# Altium schematic symbol library ACB_lib.SchLib: 52 symbols
Pins are listed as number, name and electrical type; pins without a type are passive.

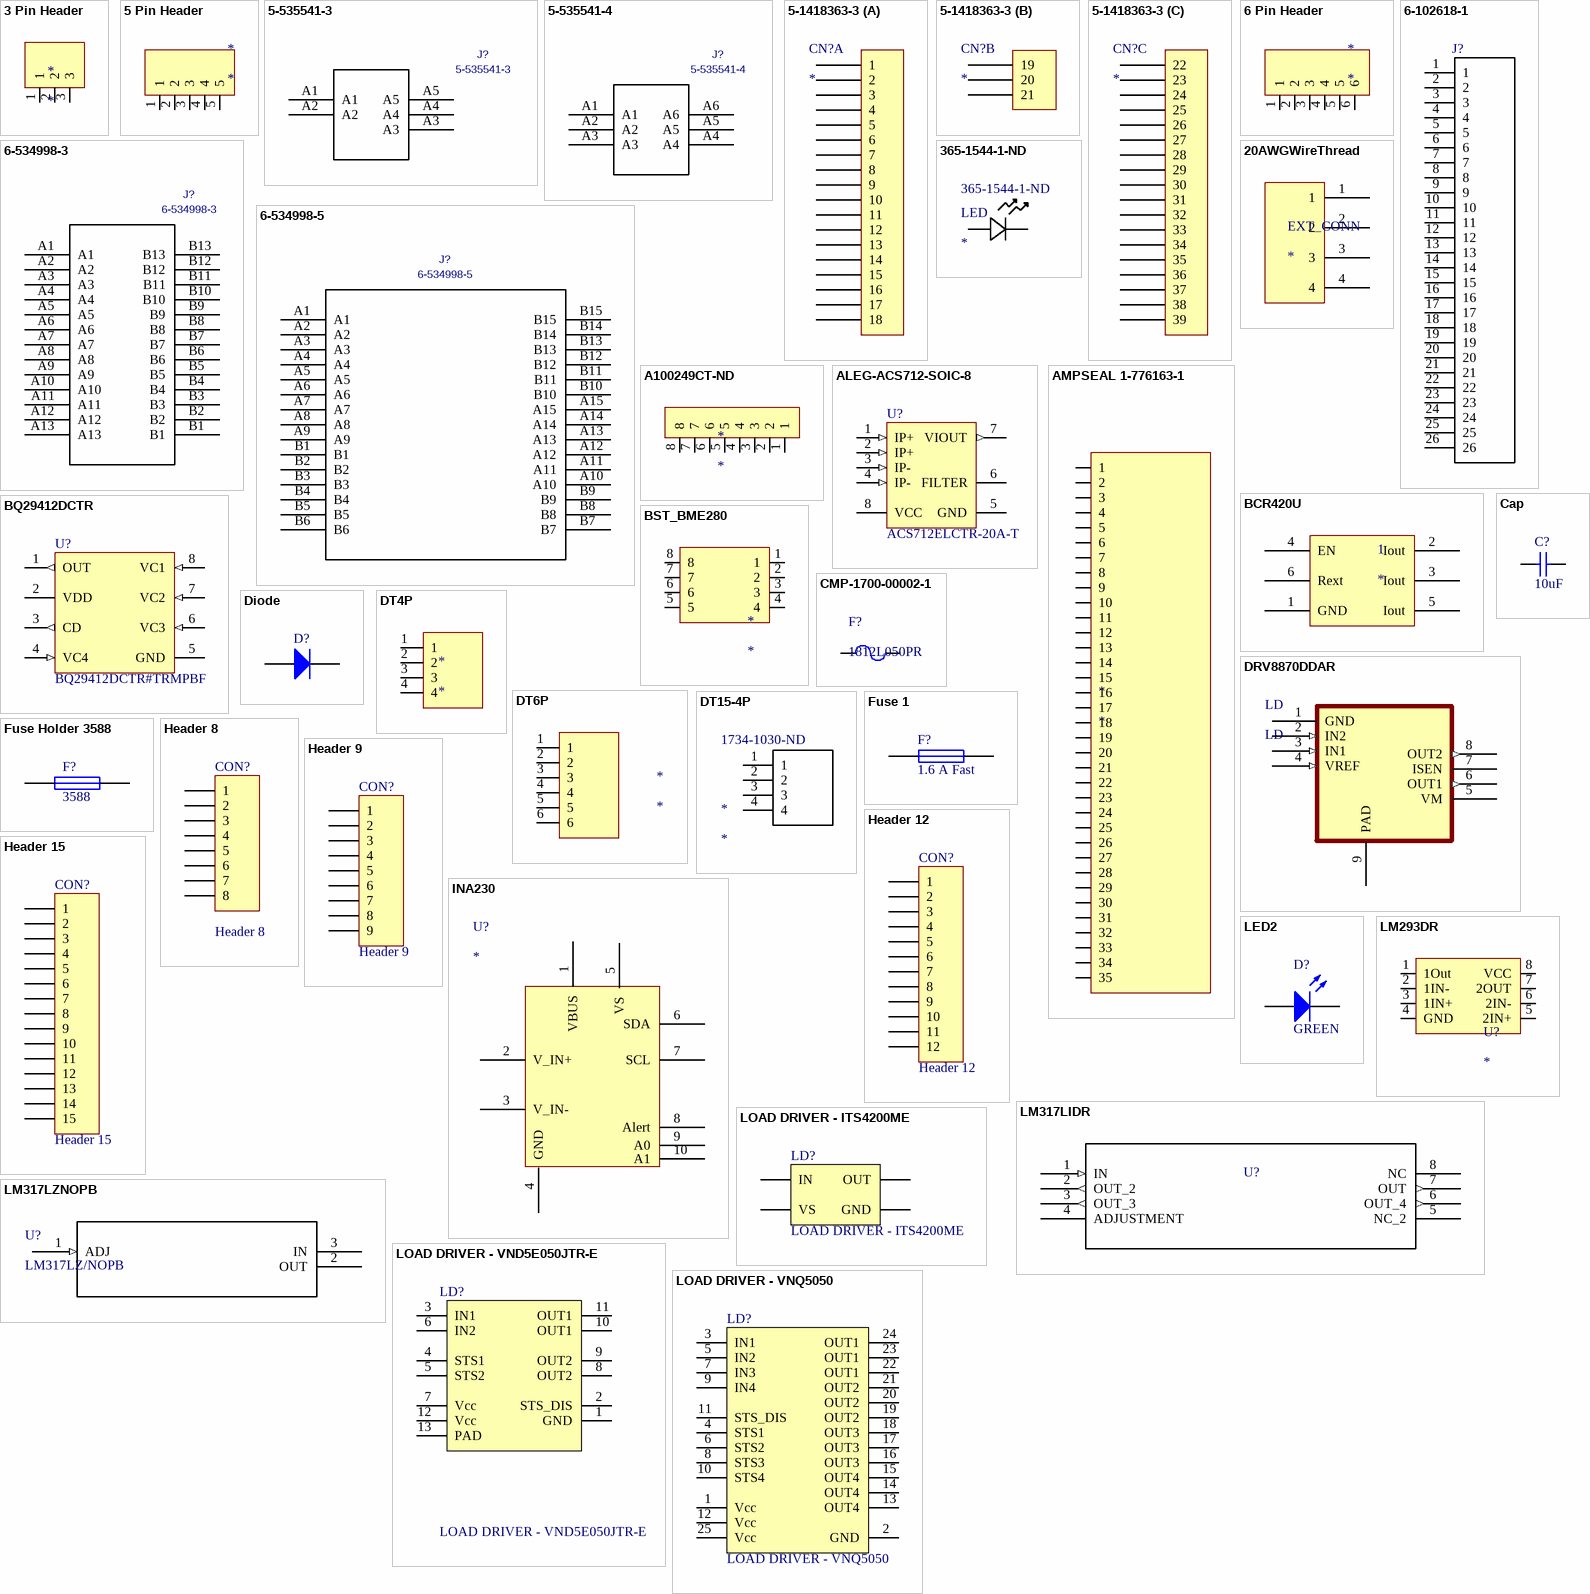
[diagram p0: symbols 3 Pin Header to LOAD DRIVER - VNQ5050]

## 3 Pin Header
designator *
footprint 3Pin Jumper (3 Pin quick jumper)
pins: 1, 2, 3

## 5 Pin Header
designator *
footprint 5-102202-2 (5-Pin single row header)
pins: 1, 2, 3, 4, 5

## 5-535541-3
designator J?
5 pin single row header; C: Copyright (C) 2015 Accelerated Designs. All rights reserved; Vendor: TE Connectivity; Built_By: EMA_UL_Team; Value: 5-535541-3; Manufacturer_Part_Number: 5-535541-3
footprint 5 Pin Header (5 Pin Header 5-535541-3_5-535541-3(Primary))
footprint 5-102202-2 (5-Pin single row header)
pins: A1, A2, A3, A4, A5

## 5-535541-4
designator J?
C: Copyright (C) 2015 Accelerated Designs. All rights reserved; Vendor: TE Connectivity; Built_By: EMA_UL_Team; Value: 5-535541-4; Manufacturer_Part_Number: 5-535541-4
footprint 5-535541-4_5-535541-4(Primary)
pins: A1, A2, A3, A4, A5, A6

## 5-1418363-3
designator CN?
Levyseal 90 degree 39 pin header
footprint LeavySeal 39 pin Ver (Levyseal 90 degree 39 pin header 5-1418363-3)
footprint LeavySeal 39 pin Hor (Levyseal 90 degree 39 pin header 5-1418363-3)
part A pins: 1, 2, 3, 4, 5, 6, 7, 8, 9, 10, 11, 12, 13, 14, 15, 16, 17, 18
part B pins: 19, 20, 21
part C pins: 22, 23, 24, 25, 26, 27, 28, 29, 30, 31, 32, 33, 34, 35, 36, 37, 38, 39

## 6 Pin Header
designator *
footprint 5-102202-3
pins: 1, 2, 3, 4, 5, 6

## 6-102618-1
designator J?  (value not drawn)
Conn Shrouded Header HDR 26 POS 2.54mm Solder ST Thru-Hole Tray; MF: TE Connectivity; SnapEDA_Link: https://www.snapeda.com/parts/6-102618-1/TE%20Connectivity%20AMP%20Connectors/view-part/?ref=snap; EU_RoHS_Compliance: Compliant; Digi-Key_Part_Number: A33061-ND; TE_purchase_URL: https://www.te.com/usa-en/product-6-102618-1.html?te_bu=Cor&te_type=disp&te_campaign=seda_glo_cor-seda-global-disp-prtnr-fy19-seda-model-bom-cta_sma-317_1&elqCampaignId=32493; MP: 6-102618-1; Digi-Key_Purchase_URL: https://www.digikey.ca/product-detail/en/te-connectivity-amp-connectors/6-102618-1/A33061-ND/1093132?utm_source=snapeda&utm_medium=aggregator&utm_campaign=symbol; Package: None; Value: *
footprint 6-102618-1 (26 Pin 2 rows)
pins: 1, 2, 3, 4, 5, 6, 7, 8, 9, 10, 11, 12, 13, 14, 15, 16, 17, 18, 19, 20, 21, 22, 23, 24, 25, 26

## 6-534998-3
designator J?
C: Copyright (C) 2015 Accelerated Designs. All rights reserved; Vendor: TE Connectivity; Built_By: EMA_UL_Team; Value: 6-534998-3; Manufacturer_Part_Number: 6-534998-3
footprint 6-534998-3_6-534998-3(Primary)
footprint 6-102618-1 (26 Pin 2 rows)
pins: A1, A2, A3, A4, A5, A6, A7, A8, A9, A10, A11, A12, A13, B1, B2, B3, B4, B5, B6, B7, B8, B9, B10, B11, B12, B13

## 6-534998-5
designator J?
C: Copyright (C) 2015 Accelerated Designs. All rights reserved; Vendor: TE Connectivity; Built_By: EMA_UL_Team; Value: 6-534998-5; Manufacturer_Part_Number: 6-534998-5
footprint 6-534998-5_6-534998-5(Primary)
pins: A1, A2, A3, A4, A5, A6, A7, A8, A9, A10, A11, A12, A13, A14, A15, B1, B2, B3, B4, B5, B6, B7, B8, B9, B10, B11, B12, B13, B14, B15

## 20AWGWireThread
designator EXT_CONN
footprint 20AWGWireThread (20 AWG wire strain relief using threading)
pins: 1, 2, 3, 4

## 365-1544-1-ND
designator LED  Supplier Part Number 1: 365-1544-1-ND
Supplier 1: Digi-Key
footprint 365-1544-1-ND (Blue LED)
pins: 1, 2

## A100249CT-ND
designator *
pins: 1, 2, 3, 4, 5, 6, 7, 8

## ALEG-ACS712-SOIC-8
designator U?, comment ACS712ELCTR-20A-T
Linear Current Sensor IC, 4.5 to 5.5 V Supply Voltage, 10 mA Supply Current, -40 to 85 degC, 8-Pin SOIC (LC), RoHS, Tape and Reel; Manufacturer: Allegro Microsystems; CLOAD: 10 nF Max.; ICC: 10 mA; F: 80 kHz; RLOAD: 4.7 kOhm Min.; Optimized Accuracy Range: +/- 20 A; TR: 3.5 us; Sensitivity Sens: 100 mV/A Typ.; Operating Temperature Range: -40 to 85 degC; ComponentLink2URL: http://www.allegromicro.com/~/media/Files/Datasheets/ACS712-Datasheet.ashx; ComponentLink1Description: Manufacturer URL; VCC: 4.5 to 5.5 V; Mounting Technology: Surface Mount; DatasheetVersion: Rev. 15; ComponentLink2Description: Datasheet; ComponentLink1URL: http://www.allegromicro.com/; PackageDescription: 8-Pin SOIC, Body 4.9 x 3.9 mm, Pitch 1.27 mm; PackageReference: LC-8; RoHS: TRUE; Packing: Tape and Reel; PartNumber: ACS712ELCTR-20A-T
footprint ALEG-LC-8_V (SOIC, 8-Leads, Body 4.9x3.9mm, Pitch 1.27mm)
pins: 1 IP+ (in) "Terminals for current being sampled; fused internally", 2 IP+ (in) "Terminals for current being sampled; fused internally", 3 IP- (in) "Terminals for current being sampled; fused internally", 4 IP- (in) "Terminals for current being sampled; fused internally", 5 GND (power) "Signal ground terminal", 6 FILTER "Terminal for external capacitor that sets bandwidth", 7 VIOUT (out) "Analog output signal", 8 VCC (power) "Device power supply terminal"

## AMPSEAL 1-776163-1
designator *
Supplier 1: Digi-Key
pins: 1, 2, 3, 4, 5, 6, 7, 8, 9, 10, 11, 12, 13, 14, 15, 16, 17, 18, 19, 20, 21, 22, 23, 24, 25, 26, 27, 28, 29, 30, 31 "281", 32, 33, 34, 35

## BCR420U
designator 1
pins: 1 GND, 2 Iout, 3 Iout, 4 EN, 5 Iout, 6 Rext

## BQ29412DCTR
designator U?, comment BQ29412DCTR#TRMPBF
OV Protection; PartNumber: LTC4365ITS8#TRMPBF; Manufacturer: Linear Technology; Fault: yes; Fast Comparator: no; Extended Temp: C, I, H; Packing: Mini Tape and Reel; Vin Range: 2.5 to 34 V; Circuit Breakers(#): 1; RoHS: TRUE; ComponentLink3Description: Package Specification; Power Good: no; Active Limiting: no; Foldback: no; Reset: no; ComponentLink3URL: http://cds.linear.com/docs/en/packaging/SOT_8_05-08-1637.pdf; PackageVersion: Rev. A, 08/2010; Code_JEDEC: MO-193; ComponentLink1Description: Manufacturer URL; Mounting Technology: Surface Mount; ComponentLink1URL: http://www.linear.com/; PackageDescription: 8-Pin Plastic TSOT-23, Body 2.9 x 1.63 mm, Pitch 0.65 mm; PackageReference: TS8-8; ComponentLink4Description: New Datasheet; ComponentLink4URL: http://www.ti.com/lit/ds/symlink/bq29410.pdf
footprint LT-TS8-8-TSOT-23_V (SOT23, 8-Leads, Body 2.9x1.75mm, Pitch 0.65mm)
pins: 1 OUT (out) "Power Supply Input. Maximum protection range: -40V to 60V. Operating range: 2.5V to 34V.", 2 VDD (power) "Undervoltage Comparator Input. Connect this pin to an external resistive divider to set the desired VIN undervoltage fault threshold. Input to an accurate, fast (1us) comparator with a 0.5V falling threshold and 25mV of (See Datasheet)", 3 CD (out) "Overvoltage Comparator Input. Connect this pin to an external resistive divider to set the desired VIN overvoltage fault threshold. Input to an accurate, fast (1us) comparator with a 0.5V rising threshold and 25mV of (See Datasheet)", 4 VC4 (in) "Shutdown Control Input. S\H\D\N\ high enables the GATE charge pump which in turn enhances the gate of an external N-channel MOSFET. A low on S\H\D\N\ generates a pull down on the GATE output with a 90uA current sink and (See Datasheet)", 5 GND (power) "Device Ground", 6 VC3 (in) "Fault Indication Output. This high voltage open drain output is pulled low if UV is below its monitor threshold, if OV is above its monitor threshold, if S\H\D\N\ is low, or if VIN has not risen above VIN(UVLO).", 7 VC2 (in) "Gate Drive Output for External N-channel MOSFETs. An internal charge pump provides 20uA of pull-up current and up to 9.8V of enhancement to the gate of an external N-channel MOSFET When turned off, GATE is pulled just below (See Datasheet)", 8 VC1 (in) "Output Voltage Sense Input. This pin senses the voltage at the output side of the external N-channel MOSFET. The GATE charge pump voltage is referenced to VOUT. It is used as the charge pump input when VOUT is greater than (See Datasheet)"

## BST_BME280
designator *
pins: 1, 2, 3, 4, 5, 6, 7, 8

## Cap
designator C?, comment 10uF
Capacitor; Published: 8-Jun-2000; LatestRevisionDate: 17-Jul-2002; LatestRevisionNote: Re-released for DXP Platform.; PackageReference: RAD-0.3; Publisher: Altium Limited; PackageDescription: Radial Cap, Thru-Hole; 2 Leads; 0.3 in Pin Spacing
footprint RAD-0.3 (Radial Cap, Thru-Hole; 2 Leads; 0.3 in Pin Spacing)
simulation model CAP (Capacitor)
signal-integrity model Cap
pins: 1, 2

## CMP-1700-00002-1
designator F?, comment 1812L050PR
POLY-FUSE(R) Resettable PTC, 0.5 A, 0.15 to 1 Ohm Resistance, -40 to 85 degC, 1812 (4532 Metric), RoHS, Tape and Reel; Voltage Rating: 50 V; Power Rating: 100 mW; Resistance: 150 kohm; Tolerance: 1%; Case\Package: 0603; ComponentLink2URL: http://www.littelfuse.com/~/media/electronics/datasheets/resettable_ptcs/littelfuse_ptc_1812l_datasheet.pdf.pdf; Pins: 2; Mount: Surface Mount; Width: 0.8 mm; Length: 1.6 mm; Package Quantity: 1; Max Operating Temperature: 155 degC; Case Code (Imperial): 0603; ComponentLink1Description: Manufacturer URL; PackageReference: 1812; ComponentLink1URL: http://www.littelfuse.com/; RoHSCompliant: true; Voltage Rating (DC): 50 V; Packaging: Tape and Reel; PackageDescription: 2-Pin Surface Mount Device, Body 4.55 x 3.24 mm; Min Operating Temperature: -55 degC; DatasheetVersion: Feb-16; REACH SVHC: No SVHC; Case Code (Metric): 1608; ComponentLink2Description: Datasheet; Height: 0.45 mm
footprint LFUS-1812L050_V (Chip Fuse, 2-Leads, Body 4.73x3.41mm)
pins: 1, 2

## Diode
designator D?  (value not drawn)
Default Diode; Published: 8-Jun-2000; LatestRevisionDate: 17-Jul-2002; LatestRevisionNote: Re-released for DXP Platform.; PackageVersion: Sep-1996; PackageReference: SMC; Publisher: Altium Limited; PackageDescription: DO-214-AB/SMC; 2 C-Bend Leads; Body 7.9 x 5.9 mm, inc. leads (LxW); Code_JEDEC: DO-214-AB
footprint SMC (DO-214-AB/SMC; 2 C-Bend Leads; Body 7.9 x 5.9 mm, inc. leads (LxW))
simulation model DIODE (Diode)
signal-integrity model Diode
pins: 1 A, 2 K

## DRV8870DDAR
designator LD, comment LD
footprint VREG_LM5017MR/NOPB
pins: 1 GND (power), 2 IN2 (in), 3 IN1 (in), 4 VREF (in), 5 VM (power), 6 OUT1 (out), 7 ISEN (power), 8 OUT2 (out), 9 PAD (power)

## DT4P
designator *
pins: 1, 2, 3, 4

## DT6P
designator *
pins: 1, 2, 3, 4, 5, 6

## DT15-4P
designator *  Supplier Part Number 1: 1734-1030-ND
Supplier 1: Digi-Key
footprint TE_DT15-4P
pins: 1, 2, 3, 4

## Fuse 1
designator F?, comment 1.6 A Fast
Fuse; Published: 8-Jun-2000; LatestRevisionDate: 17-Jul-2002; LatestRevisionNote: Re-released for DXP Platform.; PackageReference: PIN-W2/E2.8; Publisher: Altium Limited; PackageDescription: Thru-Hole; 2 Leads
footprint PIN-W2/E2.8 (Thru-Hole; 2 Leads)
simulation model FUSE (Spice Subcircuit)
pins: 1, 2

## Fuse Holder 3588
designator F?, comment 3588
footprint FUSE 3588 Holder
pins: 2, 2

## Header 8
designator CON?
Header, 8-Pin; LatestRevisionDate: 17-Jul-2002; LatestRevisionNote: Re-released for DXP Platform.; Publisher: Altium Limited
footprint HDR1X9 (Connector; Header; 9 Position)
signal-integrity model Connector
pins: 1, 2, 3, 4, 5, 6, 7, 8

## Header 9
designator CON?
Header, 9-Pin; LatestRevisionDate: 17-Jul-2002; LatestRevisionNote: Re-released for DXP Platform.; Publisher: Altium Limited
footprint HDR1X9 (Connector; Header; 9 Position)
signal-integrity model Connector
pins: 1, 2, 3, 4, 5, 6, 7, 8, 9

## Header 12
designator CON?
Header, 12-Pin; LatestRevisionDate: 17-Jul-2002; LatestRevisionNote: Re-released for DXP Platform.; Publisher: Altium Limited
footprint HDR1X12 (Connector; Header; 12 Position)
signal-integrity model Connector
pins: 1, 2, 3, 4, 5, 6, 7, 8, 9, 10, 11, 12

## Header 15
designator CON?
Header, 15-Pin; LatestRevisionDate: 17-Jul-2002; LatestRevisionNote: Re-released for DXP Platform.; Publisher: Altium Limited
footprint HDR1X15 (Connector; Header; 15 Position)
signal-integrity model Connector
pins: 1, 2, 3, 4, 5, 6, 7, 8, 9, 10, 11, 12, 13, 14, 15

## INA230
designator U?
footprint SOP50P490X110-10N
pins: 1 VBUS, 2 V_IN+, 3 V_IN-, 4 GND, 5 VS, 6 SDA, 7 SCL, 8 Alert, 9 A0, 10 A1

## LED2
designator D?, comment GREEN
Typical RED, GREEN, YELLOW, AMBER GaAs LED; Published: 8-Jun-2000; LatestRevisionDate: 17-Jul-2002; LatestRevisionNote: Re-released for DXP Platform.; PackageVersion: Feb-2002; PackageReference: 3.2X1.6X1.1; Publisher: Altium Limited; PackageDescription: SM LED; 2 Flat Leads
footprint 3.2X1.6X1.1 (SMT LED; 2 Flat Leads)
simulation model LED2 (Diode)
pins: 1 A, 2 K

## LM293DR
designator U?
IC Dual Comparator
footprint LM293DR (IC Dual Comparator 8SOIC)
pins: 1 1Out, 2 1IN-, 3 1IN+, 4 GND, 5 2IN+, 6 2IN-, 7 2OUT, 8 VCC

## LM317LIDR
designator U?
IC REG LIN POS ADJ 100MA 8SOIC
footprint 296-20678-1-ND (IC REG LIN POS ADJ 100MA 8SOIC)
pins: 1 IN (in), 2 OUT_2 (out), 3 OUT_3 (out), 4 ADJUSTMENT, 5 NC_2, 6 OUT_4 (out), 7 OUT (out), 8 NC

## LM317LZNOPB
designator U?, comment LM317LZ/NOPB
3-Terminal Adjustable Regulator, 3-pin TO-92, Pb-Free
footprint LM317LZNOPB
pins: 1 ADJ (in), 2 OUT (power), 3 IN (power)

## LOAD DRIVER - ITS4200ME
designator LD?
pins: 1 OUT, 2 GND, 3 IN, 4 VS

## LOAD DRIVER - VND5E050JTR-E
designator LD?
pins: 1 GND, 2 STS_DIS, 3 IN1, 4 STS1, 5 STS2, 6 IN2, 7 Vcc, 8 OUT2, 9 OUT2, 10 OUT1, 11 OUT1, 12 Vcc, 13 PAD "(Bottom pad of IC)"

## LOAD DRIVER - VNQ5050
designator LD?
pins: 1 Vcc, 2 GND, 3 IN1, 4 STS1, 5 IN2, 6 STS2, 7 IN3, 8 STS3, 9 IN4, 10 STS4, 11 STS_DIS, 12 Vcc, 13 OUT4, 14 OUT4, 15 OUT4, 16 OUT3, 17 OUT3, 18 OUT3, 19 OUT2, 20 OUT2, 21 OUT2, 22 OUT1, 23 OUT1, 24 OUT1, 25 Vcc

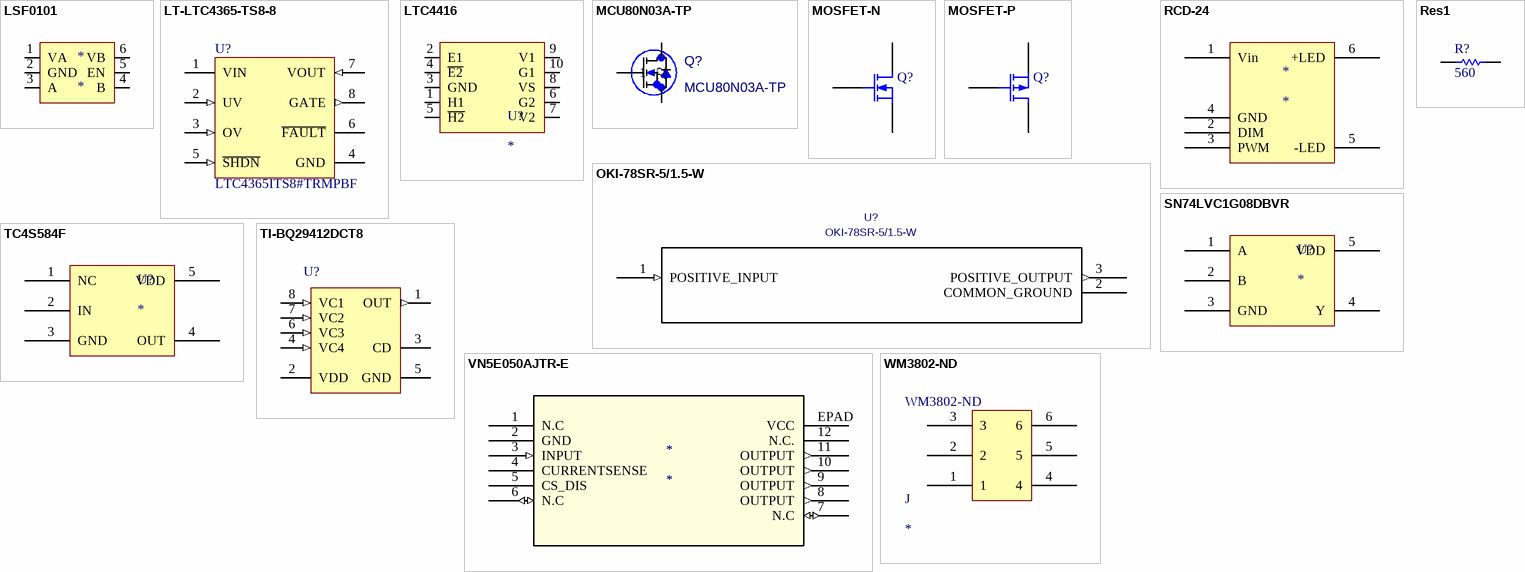
[diagram p1: symbols LSF0101 to WM3802-ND]

## LSF0101
designator *
pins: 1 VA, 2 GND, 3 A, 4 B, 5 EN, 6 VB

## LT-LTC4365-TS8-8
designator U?, comment LTC4365ITS8#TRMPBF
UV, OV and Reverse Supply Protection Controller, 2.5 to 34 V Vin, 8-pin SOT23 (TS8-8), -40 to 85 degC, Pb-Free, Mini Tape and Reel; Manufacturer: Linear Technology; Fault: yes; Fast Comparator: no; Extended Temp: C, I, H; Circuit Breakers(#): 1; RoHS: TRUE; ComponentLink2URL: http://cds.linear.com/docs/en/datasheet/4365f.pdf; PartNumber: LTC4365ITS8#TRMPBF; ComponentLink3Description: Package Specification; Power Good: no; Packing: Mini Tape and Reel; ComponentLink2Description: Datasheet; Vin Range: 2.5 to 34 V; Active Limiting: no; Foldback: no; Reset: no; ComponentLink3URL: http://cds.linear.com/docs/en/packaging/SOT_8_05-08-1637.pdf; PackageVersion: Rev. A, 08/2010; Code_JEDEC: MO-193; ComponentLink1Description: Manufacturer URL; Mounting Technology: Surface Mount; ComponentLink1URL: http://www.linear.com/; PackageDescription: 8-Pin Plastic TSOT-23, Body 2.9 x 1.63 mm, Pitch 0.65 mm; PackageReference: TS8-8
footprint LT-TS8-8-TSOT-23_V (SOT23, 8-Leads, Body 2.9x1.75mm, Pitch 0.65mm)
pins: 1 VIN (power) "Power Supply Input. Maximum protection range: -40V to 60V. Operating range: 2.5V to 34V.", 2 UV (in) "Undervoltage Comparator Input. Connect this pin to an external resistive divider to set the desired VIN undervoltage fault threshold. Input to an accurate, fast (1us) comparator with a 0.5V falling threshold and 25mV of (See Datasheet)", 3 OV (in) "Overvoltage Comparator Input. Connect this pin to an external resistive divider to set the desired VIN overvoltage fault threshold. Input to an accurate, fast (1us) comparator with a 0.5V rising threshold and 25mV of (See Datasheet)", 4 GND (power) "Device Ground", 5 ~{SHDN} (in) "Shutdown Control Input. S\H\D\N\ high enables the GATE charge pump which in turn enhances the gate of an external N-channel MOSFET. A low on S\H\D\N\ generates a pull down on the GATE output with a 90uA current sink and (See Datasheet)", 6 ~{FAULT} (oc) "Fault Indication Output. This high voltage open drain output is pulled low if UV is below its monitor threshold, if OV is above its monitor threshold, if S\H\D\N\ is low, or if VIN has not risen above VIN(UVLO).", 7 VOUT (in) "Output Voltage Sense Input. This pin senses the voltage at the output side of the external N-channel MOSFET. The GATE charge pump voltage is referenced to VOUT. It is used as the charge pump input when VOUT is greater than (See Datasheet)", 8 GATE (out) "Gate Drive Output for External N-channel MOSFETs. An internal charge pump provides 20uA of pull-up current and up to 9.8V of enhancement to the gate of an external N-channel MOSFET When turned off, GATE is pulled just below (See Datasheet)"

## LTC4416
designator U?
IC Dual Comparator
footprint LTC4416
pins: 1 H1, 2 E1, 3 GND, 4 ~{E2}, 5 ~{H2}, 6 G2, 7 V2, 8 VS, 9 V1, 10 G1

## MCU80N03A-TP
designator Q?
Mfr_Name: MCC; C: Copyright (C) 2018 Accelerated Designs. All rights reserved; Copyright: Copyright (C) 2022 Ultra Librarian. All rights reserved.; Manufacturer_Part_Number: MCU80N03A-TP; Value: MCU80N03A-TP
footprint MCU80N_MCE
pins: 1, 2, 3

## MOSFET-N
designator Q?
N-Channel MOSFET; Published: 8-Jun-2000; LatestRevisionDate: 17-Jul-2002; LatestRevisionNote: Re-released for DXP Platform.; PackageVersion: 1995/1996; PackageReference: E3; Publisher: Altium Limited; PackageDescription: TO, Flat Index; 3 In-Line, Axial Leads; Body Dia. 4.6mm; Lead Dia. 0.5 mm (max)
footprint E3 (TO, Flat Index; 3 In-Line, Axial Leads; Body Dia. 4.6mm; Lead Dia. 0.5 mm (max))
simulation model NMOS (MOSFET-N)
footprint SOT23-GDS
pins: 1 G, 2 D, 3 S

## MOSFET-P
designator Q?
P-Channel MOSFET  2SJ661-DL-1E; Published: 8-Jun-2000; LatestRevisionDate: 17-Jul-2002; LatestRevisionNote: Re-released for DXP Platform.; PackageVersion: 1995/1996; PackageReference: E3; Publisher: Altium Limited; PackageDescription: TO, Flat Index; 3 In-Line, Axial Leads; Body Dia. 4.6mm; Lead Dia. 0.5 mm (max)
footprint P-CH Mosfet
pins: 1 G, 2 D, 3 S

## OKI-78SR-5/1.5-W
designator U?
Mfr_Name: Murata; Manufacturer_Part_Number: OKI-78SR-5/1.5-W36E-C; C: Copyright (C) 2018 Accelerated Designs. All rights reserved; Value: OKI-78SR-5/1.5-W; Copyright: Copyright (C) 2022 Ultra Librarian. All rights reserved.
footprint OKI-78SR-5/1.5-W
pins: 1 POSITIVE_INPUT (in), 2 COMMON_GROUND (power), 3 POSITIVE_OUTPUT (out)

## RCD-24
designator *
pins: 1 Vin, 2 DIM, 3 PWM, 4 GND, 5 -LED, 6 +LED

## Res1
designator R?, comment 560
Resistor; Value: 1K; Published: 8-Jun-2000; LatestRevisionDate: 17-Jul-2002; LatestRevisionNote: Re-released for DXP Platform.; PackageReference: AXIAL-0.3; Publisher: Altium Limited; PackageDescription: Axial Device, Thru-Hole; 2 Leads; 0.3 in Pin Spacing
footprint AXIAL-0.3 (Axial Device, Thru-Hole; 2 Leads; 0.3 in Pin Spacing)
simulation model RESISTOR (Resistor)
signal-integrity model Res
pins: 1, 2

## SN74LVC1G08DBVR
designator U?
footprint SSOP5-P-0.95
pins: 1 A, 2 B, 3 GND, 4 Y, 5 VDD

## TC4S584F
designator U?
footprint SSOP5-P-0.95
pins: 1 NC, 2 IN, 3 GND, 4 OUT, 5 VDD

## TI-BQ29412DCT8
designator U?
footprint DCT8_M (TSOP, 8-Leads, Body 3x2.8mm, Pitch 0.65mm, IPC Low Density)
pins: 1 OUT (out) "Output", 2 VDD (power) "Power supply", 3 CD "An external capacitor is connected to determine the programmable delay time", 4 VC4 (in) "Sense voltage input for least positive cell", 5 GND (power) "Ground pin", 6 VC3 (in) "Sense voltage input for third most positive cell", 7 VC2 (in) "Sense voltage input for second most positive cell", 8 VC1 (in) "Sense voltage input for most positive cell"

## VN5E050AJTR-E
designator *
footprint SO_050AJ-E_STM
pins: 1 N.C, 2 GND (power), 3 INPUT (in), 4 CURRENTSENSE, 5 CS_DIS, 6 N.C (io), 7 N.C (io), 8 OUTPUT (out), 9 OUTPUT (out), 10 OUTPUT (out), 11 OUTPUT (out), 12 N.C., EPAD VCC (power)

## WM3802-ND
designator J  Supplier Part Number 1: WM3802-ND
Supplier 1: Digi-Key
footprint WM3802-ND
pins: 1, 2, 3, 4, 5, 6